# Altium schematic symbol library ADXL_sch.SchLib: 1 symbol
Pins are listed as number, name and electrical type; pins without a type are passive.

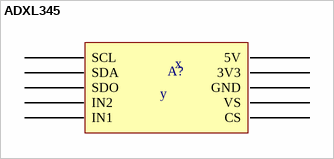
[diagram p0: symbol ADXL345]

## ADXL345
designator A?  (value not drawn)
footprint ADXL345
pins: 1 SCL, 2 SDA, 3 SDO, 4 IN2, 5 IN1, 6 CS, 7 VS, 8 GND, 9 3V3, 10 5V
text: x; y